# Altium schematic symbol library ECard_Lib.SchLib: 21 symbols
Pins are listed as number, name and electrical type; pins without a type are passive.

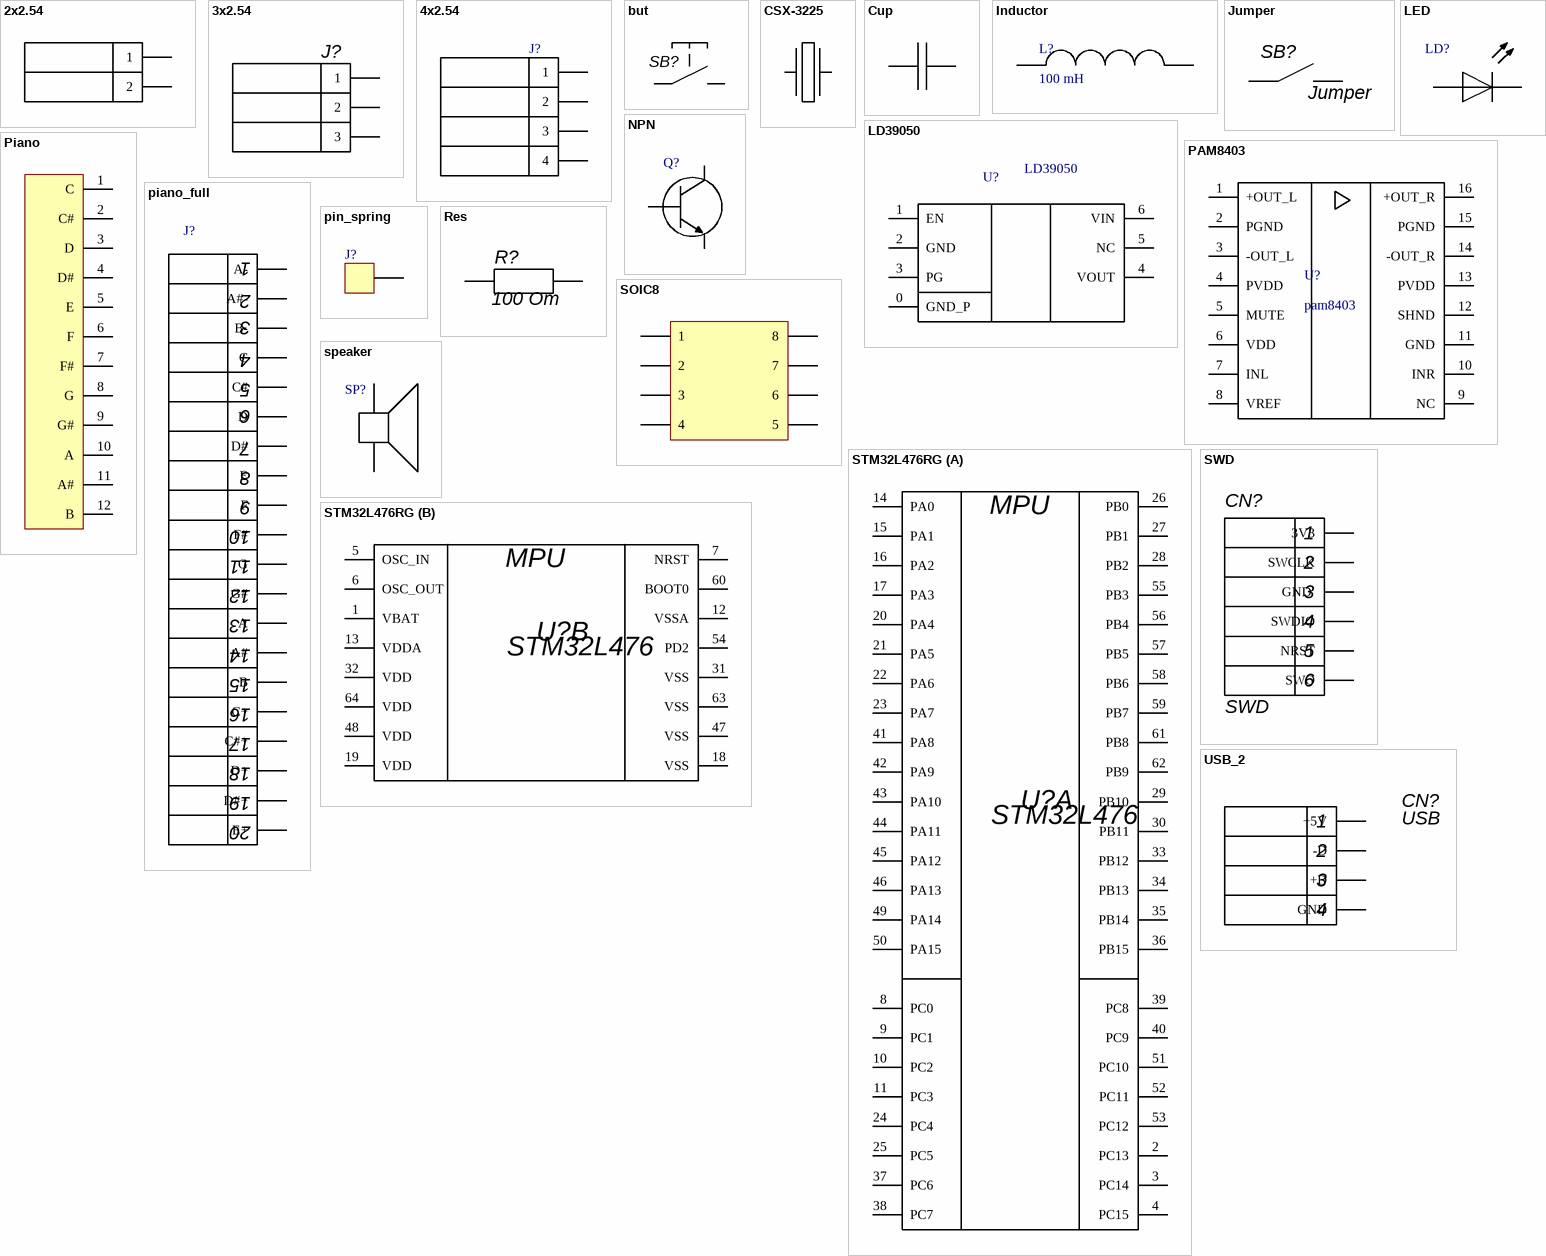
[diagram p0: symbols 2x2.54 to USB_2]

## 2x2.54
designator J?  (value not drawn)
footprint SMD 2x2.54
pins: 1, 2

## 3x2.54
designator J?  (value not drawn)
footprint SMD 3x2.54
pins: 1, 2, 3

## 4x2.54
designator J?  (value not drawn)
footprint SMD 4x2.54
footprint 4X2.54
pins: 1, 2, 3, 4

## but
designator SB?  (value not drawn)
footprint TS44-SMD; pin to pad 2>3+4
pins: 1, 2

## CSX-3225
designator X?, comment 24.000  (value not drawn)
Crystal Resonator
footprint CSX-3225; pin to pad 2>3
pins: 1, 2

## Cup
designator C?, comment 100 pF  (value not drawn)
footprint 0603
footprint 0805
pins: 1, 2

## Inductor
designator L?, comment 100 mH
footprint 0603
pins: 1, 2

## Jumper
designator SB?
footprint SB
pins: 1, 2

## LD39050
designator U?
voltage regulator
footprint DFN6
pins: 0 GND_P, 1 EN, 2 GND, 3 PG, 4 VOUT, 5 NC, 6 VIN

## LED
designator LD?
footprint 0603
footprint 0805
pins: 1 2, 2

## NPN
designator Q?
footprint SOT23
pins: 1, 2, 3

## PAM8403
designator U?, comment pam8403
footprint sop16
pins: 1 +OUT_L , 2 PGND, 3 -OUT_L, 4 PVDD, 5 MUTE, 6 VDD, 7 INL, 8 VREF, 9 NC, 10 INR, 11 GND, 12 SHND, 13 PVDD, 14 -OUT_R, 15 PGND, 16 +OUT_R

## Piano
designator ?
footprint Piano
pins: 1 C, 2 C#, 3 D, 4 D#, 5 E, 6 F, 7 F#, 8 G, 9 G#, 10 A, 11 A#, 12 B

## piano_full
designator J?  (value not drawn)
footprint PIANO_FULL
pins: 1 A-, 2 A#-, 3 B-, 4 C, 5 C#, 6 D, 7 D#, 8 E, 9 F, 10 F#, 11 G, 12 G#, 13 A, 14 A#, 15 B, 16 C+, 17 C#+, 18 D+, 19 D#+, 20 E+

## pin_spring
designator J?  (value not drawn)
footprint Spring_pin
pins: 1

## Res
designator R?, comment 100 Om
footprint 0603
footprint 1206
footprint 0805
pins: 1, 2

## SOIC8
designator U?  (value not drawn)
footprint SOIC8
pins: 1, 2, 3, 4, 5, 6, 7, 8

## speaker
designator SP?  (value not drawn)
footprint SMD 2x2.54
pins: 1, 2

## STM32L476RG
designator U?, comment STM32L476
The ultra-low-power microcontrollers based on the highperformance Arm Cortex-M4 32-bit RISC core operating at a frequency of up to 80 MHz.
footprint LQFP - 64
part A pins: 2 PC13, 3 PC14, 4 PC15, 8 PC0, 9 PC1, 10 PC2, 11 PC3, 14 PA0, 15 PA1, 16 PA2, 17 PA3, 20 PA4, 21 PA5, 22 PA6, 23 PA7, 24 PC4, 25 PC5, 26 PB0, 27 PB1, 28 PB2, 29 PB10, 30 PB11, 33 PB12, 34 PB13, 35 PB14, 36 PB15, 37 PC6, 38 PC7, 39 PC8, 40 PC9, 41 PA8, 42 PA9, 43 PA10, 44 PA11, 45 PA12, 46 PA13, 49 PA14, 50 PA15, 51 PC10, 52 PC11, 53 PC12, 55 PB3, 56 PB4, 57 PB5, 58 PB6, 59 PB7, 61 PB8, 62 PB9
part B pins: 1 VBAT, 5 OSC_IN, 6 OSC_OUT, 7 NRST, 12 VSSA, 13 VDDA, 18 VSS, 19 VDD, 31 VSS, 32 VDD, 47 VSS, 48 VDD, 54 PD2, 60 BOOT0, 63 VSS, 64 VDD
part A text: MPU
part B text: MPU

## SWD
designator CN?
footprint SWD_6_2.54
pins: 1 3V3, 2 SWCLK, 3 GND , 4 SWDIO, 5 NRST, 6 SWO

## USB_2
designator CN?, comment USB
footprint USB
pins: 1 +5V (power), 2 -D, 3 +D, 4 GND